# EAGLE library part CON8P1R (library ads)
8-pin single-row connector
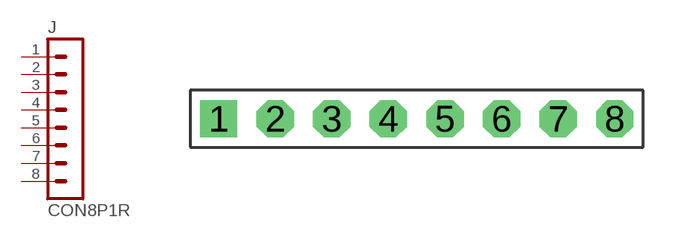
[diagram p24: symbol with the pads of CON8P1R; footprint CON8P1R]

Designator prefix J

## CON8P1R  [CON8P1R]
1  1  pas
2  2  pas
3  3  pas
4  4  pas
5  5  pas
6  6  pas
7  7  pas
8  8  pas

## Footprint CON8P1R (pad centres in mm)
drill 1.016 pad 1.676 square: 1 0,0
drill 1.016 pad 1.676 octagon: 2 2.54,0; 3 5.08,0; 4 7.62,0; 5 10.16,0; 6 12.7,0; 7 15.24,0; 8 17.78,0